# Altium schematic symbol library SCH - DRIVER - LED - TI TPS611781RNW.SchLib: 1 symbol
Pins are listed as number, name and electrical type; pins without a type are passive.

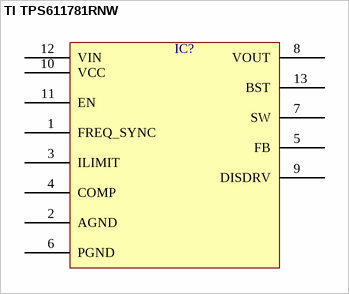
[diagram p0: symbol TI TPS611781RNW]

## TI TPS611781RNW
designator IC?  (value not drawn)
pins: 1 FREQ_SYNC, 2 AGND, 3 ILIMIT, 4 COMP, 5 FB, 6 PGND, 7 SW, 8 VOUT, 9 DISDRV, 10 VCC, 11 EN, 12 VIN, 13 BST